# EAGLE library part LPC812M101FDH20 (library carrilib)
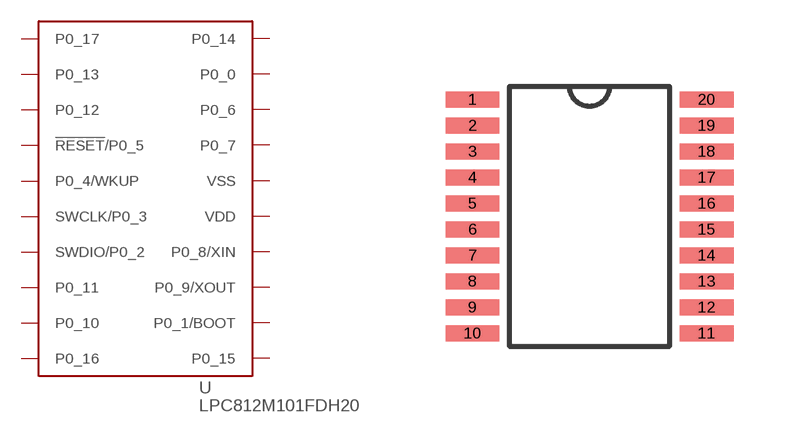
[diagram p32: symbol with the pads of TSSOP20; footprint TSSOP20]

Designator prefix -

## LPC812M101FDH20  [TSSOP20]
1  P0_17
2  P0_13
3  P0_12
4  !RESET!/P0_5
5  P0_4/WKUP
6  SWCLK/P0_3
7  SWDIO/P0_2
8  P0_11
9  P0_10
10  P0_16
11  P0_15
12  P0_1/BOOT
13  P0_9/XOUT
14  P0_8/XIN
15  VDD
16  VSS
17  P0_7
18  P0_6
19  P0_0
20  P0_14

## Footprint TSSOP20 (pad centres in mm)
smd 1.35 x 0.4: 1 -2.925,2.925; 2 -2.925,2.275; 3 -2.925,1.625; 4 -2.925,0.975; 5 -2.925,0.325; 6 -2.925,-0.325; 7 -2.925,-0.975; 8 -2.925,-1.625; 9 -2.925,-2.275; 10 -2.925,-2.925; 11 2.925,-2.925; 12 2.925,-2.275; 13 2.925,-1.625; 14 2.925,-0.975; 15 2.925,-0.325; 16 2.925,0.325; 17 2.925,0.975; 18 2.925,1.625; 19 2.925,2.275; 20 2.925,2.925